# Altium footprint library ASPI-0630LR-150M-T15.PcbLib: 1 footprints
Each footprint in its own frame and in the unit in brackets; x right, y up, seen from the top. Pads: shape width x height; smd on the part's side, far side on the other; paste and mask are expansions set on the pad; w line width, h text height; cw(c..) or ccw(c..) is an arc to the next point about the centre after c.
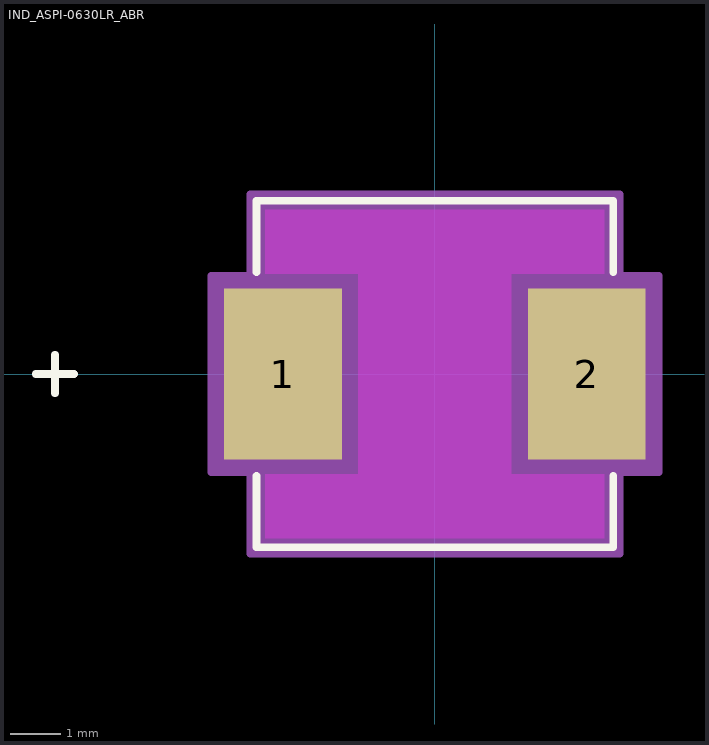
[diagram p0: the footprint, top view; thin cyan lines are the x and y axes]

## IND_ASPI-0630LR_ABR [mil]
pads (2):
  rect 92.5x134 smd paste+0 mask+0: 1(-119.25,0) 2(119.25,0)
Top Layer keep-out:
  region: -133,-129 -133,-78.74 133,-78.74 133,-129
  region: -133,78.74 -133,129 133,129 133,78.74
  region: -60,-78.74 -60,78.74 60,78.74 60,-78.74
Top Overlay:
  lines w6: -313.25,0 -283.25,0 ; -298.25,-15 -298.25,15 ; -140,-80.1 -140,-136 140,-136 140,-80.1 ; -140,80.1 -140,136 140,136 140,80.1
Mechanical 13:
  lines w1: -313.25,0 -283.25,0 ; -298.25,-15 -298.25,15 ; -135,-131 -135,131 135,131 135,-131 -135,-131
Mechanical 15:
  region: -145,-77 -175.5,-77 -175.5,77 -145,77 -145,141 145,141 145,77 175.5,77 175.5,-77 145,-77 145,-141 -145,-141
  lines w6: -175.5,-77 -145,-77 -145,-141 145,-141 145,-77 175.5,-77 175.5,77 145,77 145,141 -145,141 -145,77 -175.5,77 -175.5,-77
3D body "IND_ASPI-0630LR_ABR.step": height 120, standoff 0, extent -162.48,-130.98 162.48,130.98